# Altium footprint library Fairchild Small Signal Switching Diodes.PcbLib: 3 footprints
Each footprint in its own frame and in the unit in brackets; x right, y up, seen from the top. Pads: shape width x height; smd on the part's side, far side on the other; paste and mask are expansions set on the pad; w line width, h text height; cw(c..) or ccw(c..) is an arc to the next point about the centre after c.
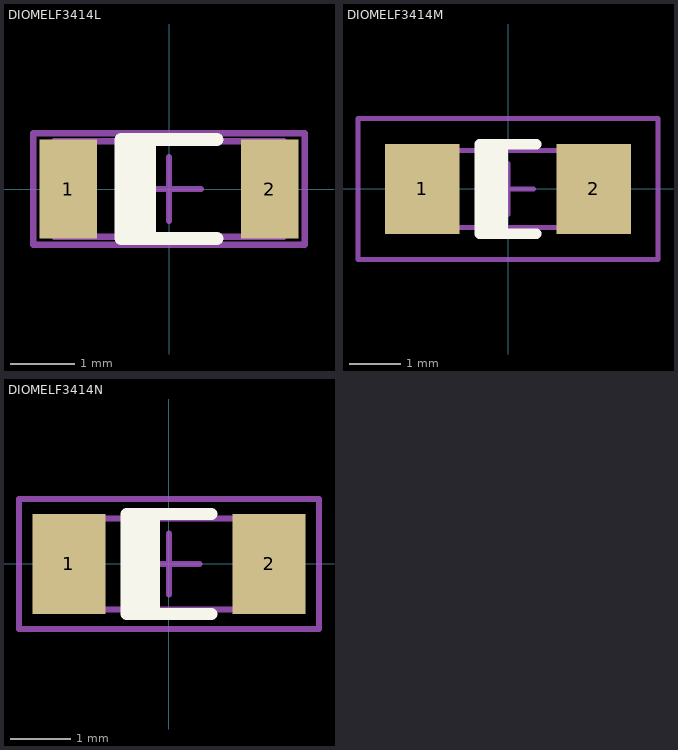
[diagram p0: the footprints below, top view; thin cyan lines are the x and y axes]

## DIOMELF3414L [mm] "MELF Diode, 2-Leads, Body 3.4x1.4mm, IPC High Density"
height 1.5
pads (2):
  rect 0.9x1.55 smd: 1(-1.575,0) 2(1.575,0)
Top Overlay:
  rectangle: -0.75,-0.775 -0.2,0.775
  lines w0.2: 0.75,-0.775 -0.75,-0.775 -0.75,0.775 0.75,0.775
Mechanical 13:
  rectangle: -1.8,-0.75 -1.316,0.75
  lines w0.1: -1.8,-0.75 1.8,-0.75 1.8,0.75 -1.8,0.75 -1.8,-0.75
Mechanical 15:
  lines w0.1: -0.5,0 0.5,0 ; 0,-0.5 0,0.5 ; -2.125,-0.875 2.125,-0.875 2.125,0.875 -2.125,0.875 -2.125,-0.875
3D body: height 1.5, standoff 0, extent -1.8,-0.75 1.8,0.75

## DIOMELF3414M [mm] "MELF Diode, 2-Leads, Body 3.4x1.4mm, IPC Low Density"
height 1.5
pads (2):
  rect 1.45x1.75 smd: 1(-1.675,0) 2(1.675,0)
Top Overlay:
  rectangle: -0.55,-0.875 0,0.875
  lines w0.2: 0.55,-0.875 -0.55,-0.875 -0.55,0.875 0.55,0.875
Mechanical 13:
  rectangle: -1.8,-0.75 -1.316,0.75
  lines w0.1: -1.8,-0.75 -1.8,0.75 1.8,0.75 1.8,-0.75 -1.8,-0.75
Mechanical 15:
  lines w0.1: -0.5,0 0.5,0 ; 0,-0.5 0,0.5 ; -2.925,-1.375 -2.925,1.375 2.925,1.375 2.925,-1.375 -2.925,-1.375
3D body: height 1.5, standoff 0, extent -1.8,-0.75 1.8,0.75

## DIOMELF3414N [mm] "MELF Diode, 2-Leads, Body 3.4x1.4mm, IPC Medium Density"
height 1.5
pads (2):
  rect 1.2x1.65 smd: 1(-1.65,0) 2(1.65,0)
Top Overlay:
  rectangle: -0.7,-0.825 -0.15,0.825
  lines w0.2: 0.7,-0.825 -0.7,-0.825 -0.7,0.825 0.7,0.825
Mechanical 13:
  rectangle: -1.8,-0.75 -1.316,0.75
  lines w0.1: -1.8,-0.75 -1.8,0.75 1.8,0.75 1.8,-0.75 -1.8,-0.75
Mechanical 15:
  lines w0.1: -0.5,0 0.5,0 ; 0,-0.5 0,0.5 ; -2.475,-1.075 -2.475,1.075 2.475,1.075 2.475,-1.075 -2.475,-1.075
3D body: height 1.5, standoff 0, extent -1.8,-0.75 1.8,0.75